# EAGLE library part CAT9554 (library 000001)
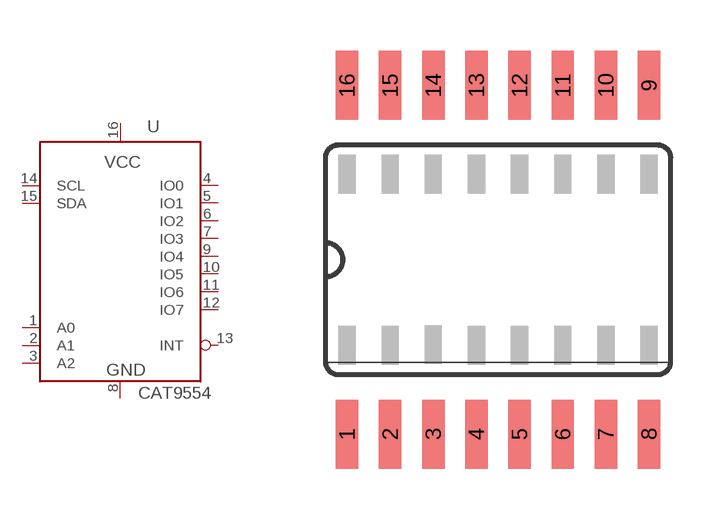
[diagram p73: symbol with the pads of SO16; footprint SO16]

Designator prefix -

## CAT9554W  [SO16]
1  A0  in
2  A1  in
3  A2  in
4  IO0
5  IO1
6  IO2
7  IO3
8  GND  pwr
9  IO4
10  IO5
11  IO6
12  IO7
13  INT
14  SCL  in
15  SDA
16  VCC  pwr

## Footprint SO16 (pad centres in mm)
Small Outline Package .150 SIOC Source: http://www.maxim-ic.com/package_drawings/21-0041B.pdf
smd 0.66 x 2.032: 1 -4.445,-5.137; 2 -3.175,-5.137; 3 -1.905,-5.137; 4 -0.635,-5.137; 5 0.635,-5.137; 6 1.905,-5.137; 7 3.175,-5.137; 8 4.445,-5.137; 9 4.445,5.137; 10 3.175,5.137; 11 1.905,5.137; 12 0.635,5.137; 13 -0.635,5.137; 14 -1.905,5.137; 15 -3.175,5.137; 16 -4.445,5.137